# Altium integrated library RH-0505D_H6.IntLib: 1 symbol
Pins are listed as number, name and electrical type; pins without a type are passive.

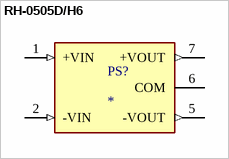
[diagram p0: symbol RH-0505D/H6]

## RH-0505D/H6
designator PS?
DC/DC Converter, 1 Watt, SIP7, Dual Output; MP: RH-0505D/H6; Package: None; Price: None; Value: *; Availability: Unavailable
footprint CONV_RH-0505D/H6
pins: 1 +VIN (in), 2 -VIN (in), 5 -VOUT (out), 6 COM (power), 7 +VOUT (out)